# Altium footprint library 03156401010.PcbLib: 1 footprints
Each footprint in its own frame and in the unit in brackets; x right, y up, seen from the top. Pads: shape width x height; smd on the part's side, far side on the other; paste and mask are expansions set on the pad; w line width, h text height; cw(c..) or ccw(c..) is an arc to the next point about the centre after c.
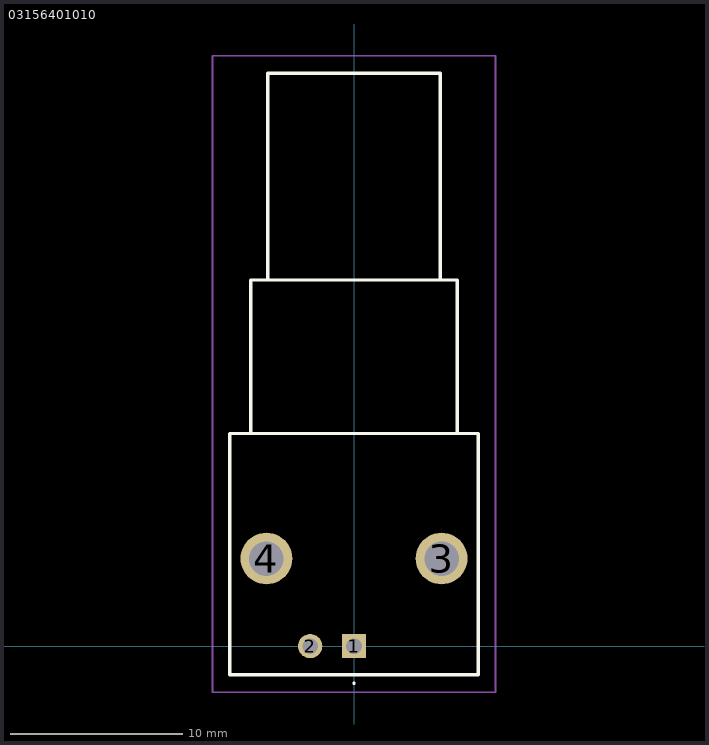
[diagram p0: the footprint, top view; thin cyan lines are the x and y axes]

## 03156401010 [mm]
pads (4):
  rect 1.4x1.4 hole 0.9: 1(0,0)
  round 1.4 hole 0.9: 2(-2.54,0)
  round 3 hole 2: 3(5.08,5.08) 4(-5.08,5.08)
Top Overlay:
  lines w0.1: 0,-2.2 cw(c0,-2.15) 0,-2.1 ; 0,-2.2 0,-2.2 ; 0,-2.2 ccw(c0,-2.15) 0,-2.1 ; 0,-2.1 0,-2.1
  lines w0.2: -6,12.33 -6,21.23 6,21.23 6,12.33 ; -5,21.23 -5,33.23 5,33.23 5,21.23 ; -7.2,-1.67 7.2,-1.67 7.2,12.33 -7.2,12.33 -7.2,-1.67
Mechanical 15:
  lines w0.1: -6,12.33 -6,21.23 6,21.23 6,12.33 ; -5,21.23 -5,33.23 5,33.23 5,21.23 ; -7.2,-1.67 7.2,-1.67 7.2,12.33 -7.2,12.33 -7.2,-1.67
Mechanical 20:
  lines w0.1: -8.2,-2.67 8.2,-2.67 8.2,34.23 -8.2,34.23 -8.2,-2.67